# Altium integrated library ElectrolyteCapacitor100uF16VSMD.IntLib: 1 symbol
Pins are listed as number, name and electrical type; pins without a type are passive.

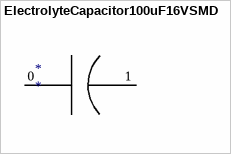
[diagram p0: symbol ElectrolyteCapacitor100uF16VSMD]

## ElectrolyteCapacitor100uF16VSMD
designator *
footprint ElectrolyteCapacitor100uF16VSMD
pins: 0, 1